# Altium schematic symbol library TAJR225K016RNJ.SchLib: 1 symbol
Pins are listed as number, name and electrical type; pins without a type are passive.

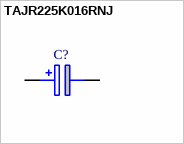
[diagram p0: symbol TAJR225K016RNJ]

## TAJR225K016RNJ
designator C?
Tantalum Capacitor , 0805 2.2UF 16V; Manufacturer_Name: AVX; Geometry.Height: 1.2mm; Manufacturer_Part_Number: TAJR225K016RNJ; Mouser Part Number: 581-TAJR225K016RNJ; Mouser Price/Stock: https://www.mouser.co.uk/ProductDetail/AVX/TAJR225K016RNJ/?qs=vQJa%252BfcOt8MJtnsQ1zkKAg%3D%3D; Arrow Part Number: TAJR225K016RNJ; Arrow Price/Stock: https://www.arrow.com/en/products/tajr225k016rnj/avx; Mouser Testing Part Number: *; Mouser Testing Price/Stock: *; Datasheet Link: http://www.farnell.com/datasheets/1680476.pdf
footprint CAPPM2014X120N
pins: 1 +, 2 -